# EAGLE library part UAA3220TS (library PCA9545)
FSK / ASK Receiver Frequency Shift Keying / Amplitude Shift Keying
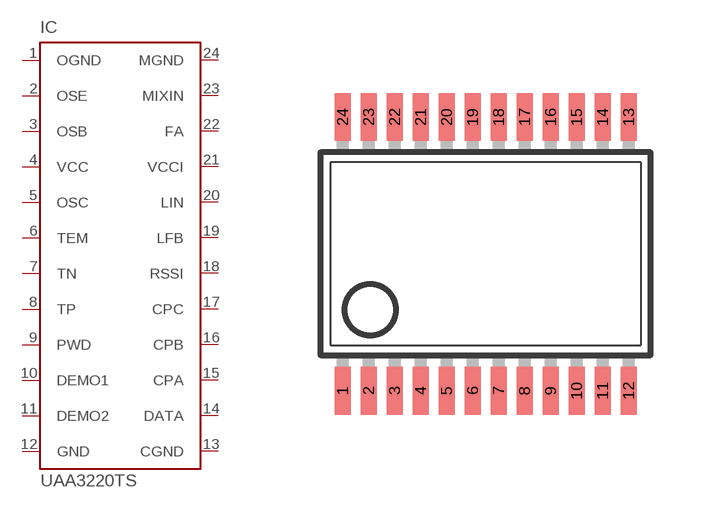
[diagram p13: symbol with the pads of SSOP24; footprint SSOP24]

Designator prefix IC

## UAA3220TS (MPN: UAA3220TS/V1,118; OC_FARNELL: unknown; OC_NEWARK: 70R9521)  [SSOP24]
1  OGND  pwr
2  OSE  pas
3  OSB  pas
4  VCC  pwr
5  OSC  oc
6  TEM  pas
7  TN  oc
8  TP  oc
9  PWD  pas
10  DEMO1  pas
11  DEMO2  pas
12  GND  pwr
13  CGND  pwr
14  DATA  pas
15  CPA  pas
16  CPB  pas
17  CPC  pas
18  RSSI  pas
19  LFB  pas
20  LIN  pas
21  VCCI  pwr
22  FA  pas
23  MIXIN  pas
24  MGND  pas

## Footprint SSOP24 (pad centres in mm)
Small Shrink Outline Package SOT340-1 / JEDEC MO-150AG
smd 0.4 x 1.2: 1 -3.575,-3.42; 2 -2.925,-3.42; 3 -2.275,-3.42; 4 -1.625,-3.42; 5 -0.975,-3.42; 6 -0.325,-3.42; 7 0.325,-3.42; 8 0.975,-3.42; 9 1.625,-3.42; 10 2.275,-3.42; 11 2.925,-3.42; 12 3.575,-3.42; 13 3.575,3.42; 14 2.925,3.42; 15 2.275,3.42; 16 1.625,3.42; 17 0.975,3.42; 18 0.325,3.42; 19 -0.325,3.42; 20 -0.975,3.42; 21 -1.625,3.42; 22 -2.275,3.42; 23 -2.925,3.42; 24 -3.575,3.42